# Altium footprint library SW_PG151101S11.PcbLib: 1 footprints
Each footprint in its own frame and in the unit in brackets; x right, y up, seen from the top. Pads: shape width x height; smd on the part's side, far side on the other; paste and mask are expansions set on the pad; w line width, h text height; cw(c..) or ccw(c..) is an arc to the next point about the centre after c.
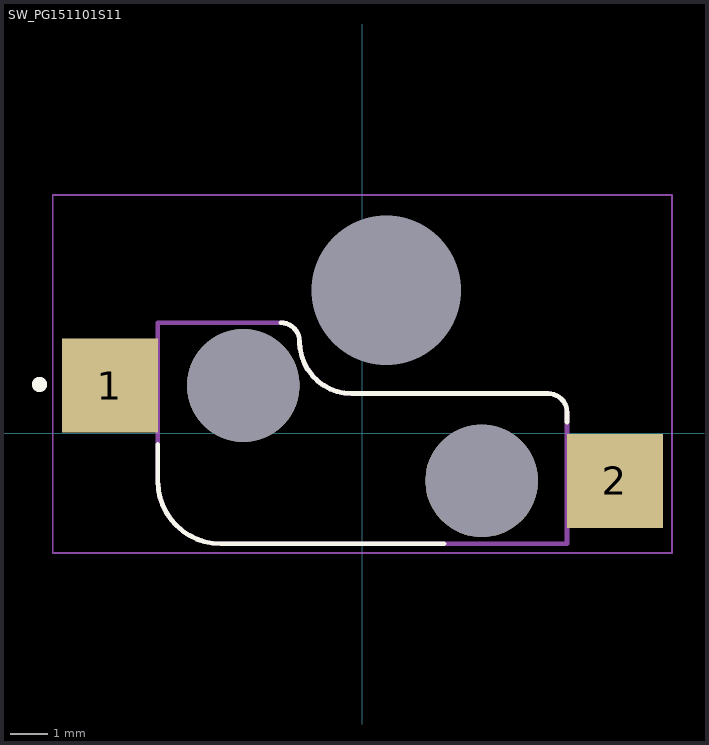
[diagram p0: the footprint, top view; thin cyan lines are the x and y axes]

## SW_PG151101S11 [mm]
pads (5):
  rect 2.55x2.5 smd: 1(-6.725,1.27) 2(6.725,-1.27)
  round 3 hole 3 unplated: ""(-3.175,1.27) ""(3.175,-1.27)
  round 3 hole 3.988 unplated: ""(0.635,3.81)
Top Overlay:
  circle w0.2: c-8.6,1.3 r0.1
  lines w0.127: -5.45,-0.3 -5.45,-1.27 ccw(c-3.775,-1.27) -3.775,-2.945 2.175,-2.945 ; -2.175,2.945 cw(c-2.175,2.445) -1.675,2.445 ccw(c-0.285,2.445) -0.285,1.055 4.95,1.055 cw(c4.95,0.555) 5.45,0.555 5.45,0.3
Mechanical 13:
  circle w0.2: c-8.6,1.3 r0.1
  lines w0.127: -5.45,-1.27 ccw(c-3.775,-1.27) -3.775,-2.945 5.45,-2.945 5.45,0.555 ccw(c4.95,0.555) 4.95,1.055 -0.285,1.055 cw(c-0.285,2.445) -1.675,2.445 ccw(c-2.175,2.445) -2.175,2.945 -5.45,2.945 -5.45,-1.27
Mechanical 15:
  lines w0.05: -8.25,-3.195 8.25,-3.195 8.25,6.35 -8.25,6.35 -8.25,-3.195